# EAGLE library part SFV18R-3STBE1HLF (library Smile_Shade)
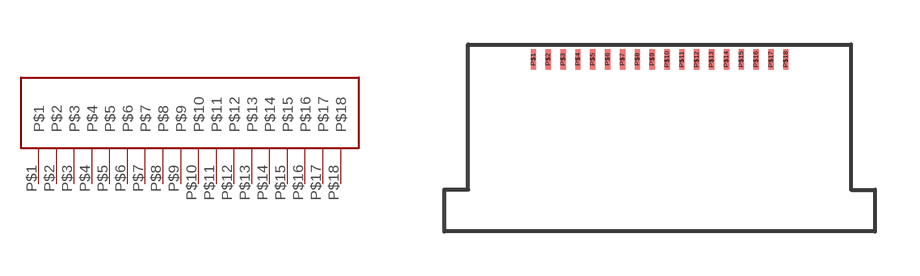
[diagram p10: symbol with the pads of SFV18R-3STBE1HLF; footprint SFV18R-3STBE1HLF]

Designator prefix -

## SFV18R-3STBE1HLF  [SFV18R-3STBE1HLF]
P$1  P$1
P$2  P$2
P$3  P$3
P$4  P$4
P$5  P$5
P$6  P$6
P$7  P$7
P$8  P$8
P$9  P$9
P$10  P$10
P$11  P$11
P$12  P$12
P$13  P$13
P$14  P$14
P$15  P$15
P$16  P$16
P$17  P$17
P$18  P$18

## Footprint SFV18R-3STBE1HLF (pad centres in mm)
smd 0.18 x 0.7: P$1 0,0; P$2 0.5,0; P$3 1,0; P$4 1.5,0; P$5 2,0; P$6 2.5,0; P$7 3,0; P$8 3.5,0; P$9 4,0; P$10 4.5,0; P$11 5,0; P$12 5.5,0; P$13 6,0; P$14 6.5,0; P$15 7,0; P$16 7.5,0; P$17 8,0; P$18 8.5,0